# EAGLE library part PIC24FJ64GA004_PIM (library microchip-dspic)
PIC24FJ64GA004-PIM Device on PIM Board
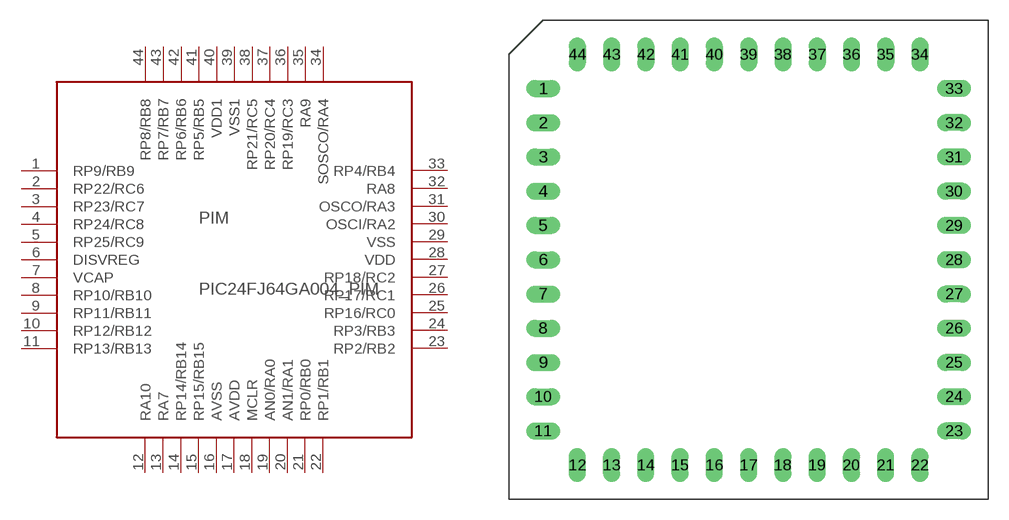
[diagram p26: symbol with the pads of TQFP44-PIM; footprint TQFP44-PIM]

Designator prefix PIM

## PIC24FJ64GA004_PIM  [TQFP44-PIM]
1  RP9/RB9
2  RP22/RC6
3  RP23/RC7
4  RP24/RC8
5  RP25/RC9
6  DISVREG
7  VCAP
8  RP10/RB10
9  RP11/RB11
10  RP12/RB12
11  RP13/RB13
12  RA10
13  RA7
14  RP14/RB14
15  RP15/RB15
16  AVSS
17  AVDD
18  MCLR
19  AN0/RA0
20  AN1/RA1
21  RP0/RB0
22  RP1/RB1
23  RP2/RB2
24  RP3/RB3
25  RP16/RC0
26  RP17/RC1
27  RP18/RC2
28  VDD
29  VSS
30  OSCI/RA2
31  OSCO/RA3
32  RA8
33  RP4/RB4
34  SOSCO/RA4
35  RA9
36  RP19/RC3
37  RP20/RC4
38  RP21/RC5
39  VSS1
40  VDD1
41  RP5/RB5
42  RP6/RB6
43  RP7/RB7
44  RP8/RB8

## Footprint TQFP44-PIM (pad centres in mm)
drill 0.5 pad 1.27 long: 1 -15.24,12.7; 2 -15.24,10.16; 3 -15.24,7.62; 4 -15.24,5.08; 5 -15.24,2.54; 6 -15.24,0; 7 -15.24,-2.54; 8 -15.24,-5.08; 9 -15.24,-7.62; 10 -15.24,-10.16; 11 -15.24,-12.7; 12 -12.7,-15.24; 13 -10.16,-15.24; 14 -7.62,-15.24; 15 -5.08,-15.24; 16 -2.54,-15.24; 17 0,-15.24; 18 2.54,-15.24; 19 5.08,-15.24; 20 7.62,-15.24; 21 10.16,-15.24; 22 12.7,-15.24; 23 15.24,-12.7; 24 15.24,-10.16; 25 15.24,-7.62; 26 15.24,-5.08; 27 15.24,-2.54; 28 15.24,0; 29 15.24,2.54; 30 15.24,5.08; 31 15.24,7.62; 32 15.24,10.16; 33 15.24,12.7; 34 12.7,15.24; 35 10.16,15.24; 36 7.62,15.24; 37 5.08,15.24; 38 2.54,15.24; 39 0,15.24; 40 -2.54,15.24; 41 -5.08,15.24; 42 -7.62,15.24; 43 -10.16,15.24; 44 -12.7,15.24